# EAGLE library part 658807713040 (library Wurth_Connectors_WR-BTB)
WR-BTB 0.80 mm Female Vertical SMT 7.75 Receptacle w. Chamfer KIND PROPERTIES: Pitch 0.8 mm Quality Class 30 Mating cycles MATERIAL PROPERTIES: Insulator Material LCP Insulator Flammability Rating UL94 V-0 Insulator Color Ivory Contact Copper Alloy Contact Plating Selective Gold Contact Type Stamped GENERAL PROPERTIES: Operating Temperature -55 °C up to +85 °C Compliance Lead free / RoHS ELECTRICAL PROPERTIES: Rated Current [1] 0.5 A Working Voltage 50 V (AC) Withstanding Voltage 500 V (AC) Contact Resistance 50 mΩ Insulation Resistance 100 MΩ PACKAGING PROPERTIES: Packaging Tape and Reel with Cap <https://www.we-online.com/catalog/media/o97332v209%20Family_WR-BTB_658807703040.jpg> Details see: https://www.we-online.com/katalog/en/em/BTB_0_80_FEMALE_SMT_VERTICAL_RECEPTACLE_H7_75_W_CHAMFER_658807713XXX Updated by Yingchun,Shan 2019-10-15 2019 (C) Würth Elektronik
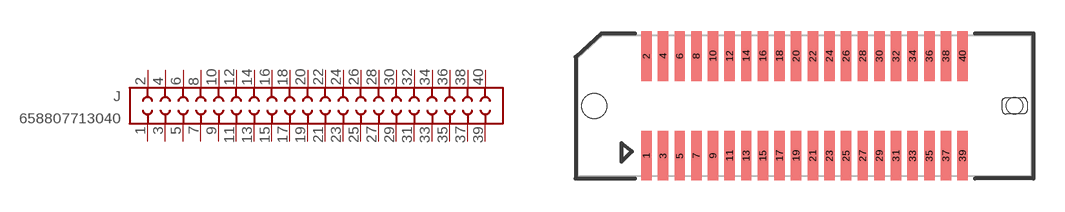
[diagram p3: symbol with the pads of 658807713040; footprint 658807713040]

Designator prefix J

## 658807713040 (DATASHEET-URL: https://www.we-online.com/catalog/datasheet/658807713040.pdf; GENDER: Female Receptacle; IR: 0.5A; PACKAGING: Tape and Reel with Cap; PART-NUMBER: 658807713040; PINS: 40; TYPE: Vertical; VALUE: 658807713040)  [658807713040]
1  1  pas
2  2  pas
3  3  pas
4  4  pas
5  5  pas
6  6  pas
7  7  pas
8  8  pas
9  9  pas
10  10  pas
11  11  pas
12  12  pas
13  13  pas
14  14  pas
15  15  pas
16  16  pas
17  17  pas
18  18  pas
19  19  pas
20  20  pas
21  21  pas
22  22  pas
23  23  pas
24  24  pas
25  25  pas
26  26  pas
27  27  pas
28  28  pas
29  29  pas
30  30  pas
31  31  pas
32  32  pas
33  33  pas
34  34  pas
35  35  pas
36  36  pas
37  37  pas
38  38  pas
39  39  pas
40  40  pas

## Footprint 658807713040 (pad centres in mm)
Con-BTB 0.80 mm Female Vertical SMT 7.75 Receptacle w. Chamfer 40 Pins
smd 0.5 x 2.4: 1 -7.6,-2.4; 2 -7.6,2.4; 3 -6.8,-2.4; 4 -6.8,2.4; 5 -6,-2.4; 6 -6,2.4; 7 -5.2,-2.4; 8 -5.2,2.4; 9 -4.4,-2.4; 10 -4.4,2.4; 11 -3.6,-2.4; 12 -3.6,2.4; 13 -2.8,-2.4; 14 -2.8,2.4; 15 -2,-2.4; 16 -2,2.4; 17 -1.2,-2.4; 18 -1.2,2.4; 19 -0.4,-2.4; 20 -0.4,2.4; 21 0.4,-2.4; 22 0.4,2.4; 23 1.2,-2.4; 24 1.2,2.4; 25 2,-2.4; 26 2,2.4; 27 2.8,-2.4; 28 2.8,2.4; 29 3.6,-2.4; 30 3.6,2.4; 31 4.4,-2.4; 32 4.4,2.4; 33 5.2,-2.4; 34 5.2,2.4; 35 6,-2.4; 36 6,2.4; 37 6.8,-2.4; 38 6.8,2.4; 39 7.6,-2.4; 40 7.6,2.4
hole 1.2 at -10.1,0
hole 0.8 at 10.1,0